# Altium schematic symbol library SCH - MISC - TP_1mm.SCHLIB: 1 symbol
Pins are listed as number, name and electrical type; pins without a type are passive.

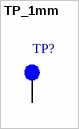
[diagram p0: symbol TP_1mm]

## TP_1mm
designator TP?, comment Testpoint 1mm  (value not drawn)  (no BOM)
Created: 2018_06_25_AGeiger; Value: Testpoint 1mm
footprint TP_1mm
pins: 1